# Altium schematic symbol library X-ESC34B.Schlib: 1 symbol
Pins are listed as number, name and electrical type; pins without a type are passive.

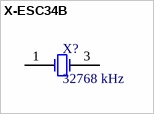
[diagram p0: symbol X-ESC34B]

## X-ESC34B
designator X?, comment 32768 kHz
pins: 1 OSC1, 3 OSC2